# Altium footprint library TL1016AAF220QG.PcbLib: 1 footprints
Each footprint in its own frame and in the unit in brackets; x right, y up, seen from the top. Pads: shape width x height; smd on the part's side, far side on the other; paste and mask are expansions set on the pad; w line width, h text height; cw(c..) or ccw(c..) is an arc to the next point about the centre after c.
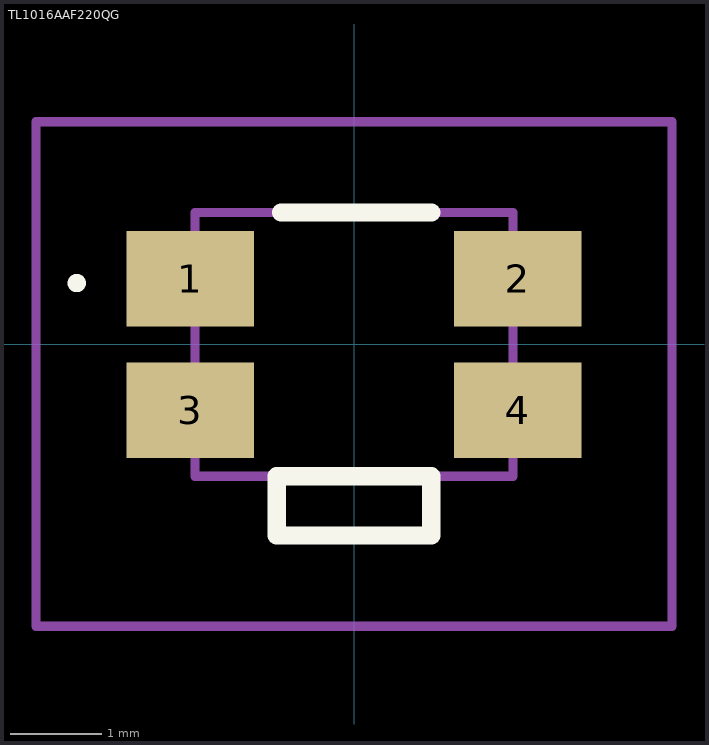
[diagram p0: the footprint, top view; thin cyan lines are the x and y axes]

## TL1016AAF220QG [mm]
pads (4):
  rect 1.4x1.05 smd: 1(-1.8,0.725) 2(1.8,0.725) 3(-1.8,-0.725) 4(1.8,-0.725)
Top Overlay:
  lines w0.1: -3.1,0.675 cw(c-3.05,0.675) -3,0.675 ; -3.1,0.675 -3.1,0.675 ; -3.1,0.675 ccw(c-3.05,0.675) -3,0.675 ; -3,0.675 -3,0.675
  lines w0.2: -0.85,-1.45 -0.85,-2.1 0.85,-2.1 0.85,-1.45 ; -0.8,-1.45 0.8,-1.45 ; -0.8,1.45 0.85,1.45
Mechanical 15:
  lines w0.1: -0.85,-1.45 -0.85,-2.1 0.85,-2.1 0.85,-1.45 ; -1.75,-1.45 1.75,-1.45 1.75,1.45 -1.75,1.45 -1.75,-1.45
Mechanical 20:
  lines w0.1: -3.5,-3.1 3.5,-3.1 3.5,2.45 -3.5,2.45 -3.5,-3.1